# EAGLE library part B13B-PH (library con-jst-ph)
JST PH series header 2.00mm pitch disconnectable crimp style connectors, vertical (side entry type), 135 pins
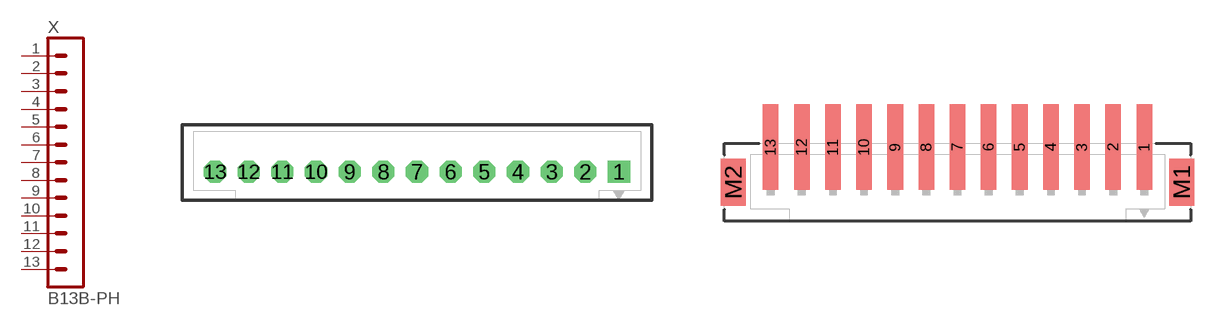
[diagram p7: symbol with the pads of B13B-PH-KL-S; footprints B13B-PH-KL-S, B13B-PH-SM4-TB]

Designator prefix X

## B13B-PH-KL-S  [B13B-PH-KL-S]
1  1  pas
2  2  pas
3  3  pas
4  4  pas
5  5  pas
6  6  pas
7  7  pas
8  8  pas
9  9  pas
10  10  pas
11  11  pas
12  12  pas
13  13  pas

## B13B-PH-SM4-TB  [B13B-PH-SM4-TB]
Pads as for B13B-PH-KL-S

## Footprint B13B-PH-KL-S (pad centres in mm)
JST PH series header 2.00mm pitch disconnectable crimp style connectors, through-hole vertical (top entry type), 13 pins
drill 0.7 pad 1.321 square: 1 12,0
drill 0.7 pad 1.321 octagon: 2 10,0; 3 8,0; 4 6,0; 5 4,0; 6 2,0; 7 0,0; 8 -2,0; 9 -4,0; 10 -6,0; 11 -8,0; 12 -10,0; 13 -12,0

## Footprint B13B-PH-SM4-TB (pad centres in mm)
JST PH series header 2.00mm pitch disconnectable crimp style connectors, SMT vertical (top entry type), 13 pins
smd 1 x 5.5: 1 12,0; 2 10,0; 3 8,0; 4 6,0; 5 4,0; 6 2,0; 7 0,0; 8 -2,0; 9 -4,0; 10 -6,0; 11 -8,0; 12 -10,0; 13 -12,0
smd 1.6 x 3: M1 14.4,-2.25; M2 -14.4,-2.25